# Altium footprint library CE_12.5X25.PcbLib: 1 footprints
Each footprint in its own frame and in the unit in brackets; x right, y up, seen from the top. Pads: shape width x height; smd on the part's side, far side on the other; paste and mask are expansions set on the pad; w line width, h text height; cw(c..) or ccw(c..) is an arc to the next point about the centre after c.
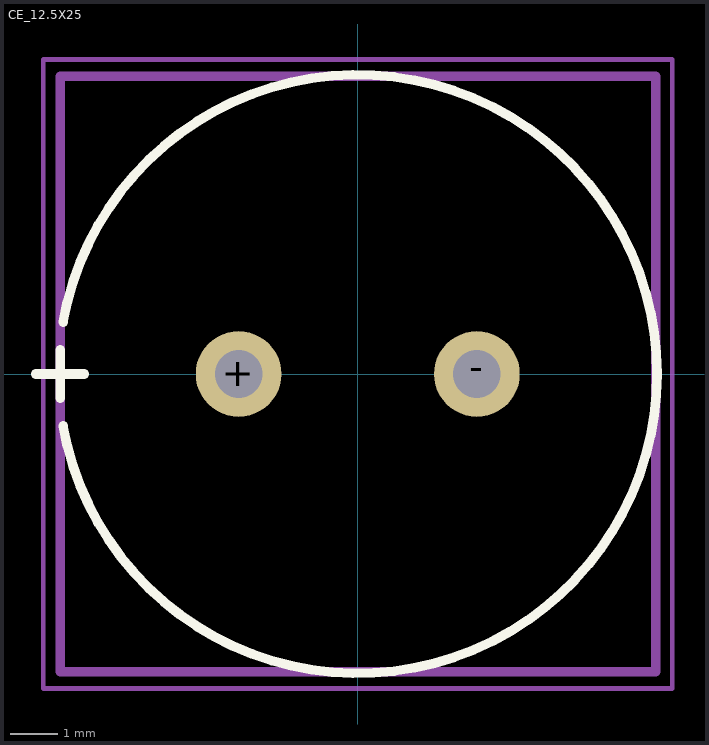
[diagram p0: the footprint, top view; thin cyan lines are the x and y axes]

## CE_12.5X25 [mm]
height 25
pads (2):
  round 1.8 hole 1: +(-2.5,0) -(2.5,0)
Top Overlay:
  lines w0.2: -6.758,0 -5.742,0 ; -6.25,-0.508 -6.25,0.508 ; -6.186,-1.091 ccw(c0,0) -6.186,1.091
Top Assembly:
  lines w0.2: -6.25,-6.25 -6.25,6.25 6.252,6.25 6.252,-6.25 -6.25,-6.25
Top Courtyard:
  lines w0.1: -6.6,-6.6 6.6,-6.6 6.6,6.6 -6.6,6.6 -6.6,-6.6
Top Designator:
  text ".Designator" at -7.618,-0.508 h1.52
3D body "User Library-Cap-EL(12_5x25-5).STEP": height 25, standoff -3.3, extent -6.25,-6.25 6.252,6.25